# Altium footprint library 杂项库.PcbLib: 585 footprints (part 5 of 37)
Each footprint in its own frame and in the unit in brackets; x right, y up, seen from the top. Pads: shape width x height; smd on the part's side, far side on the other; paste and mask are expansions set on the pad; w line width, h text height; cw(c..) or ccw(c..) is an arc to the next point about the centre after c.
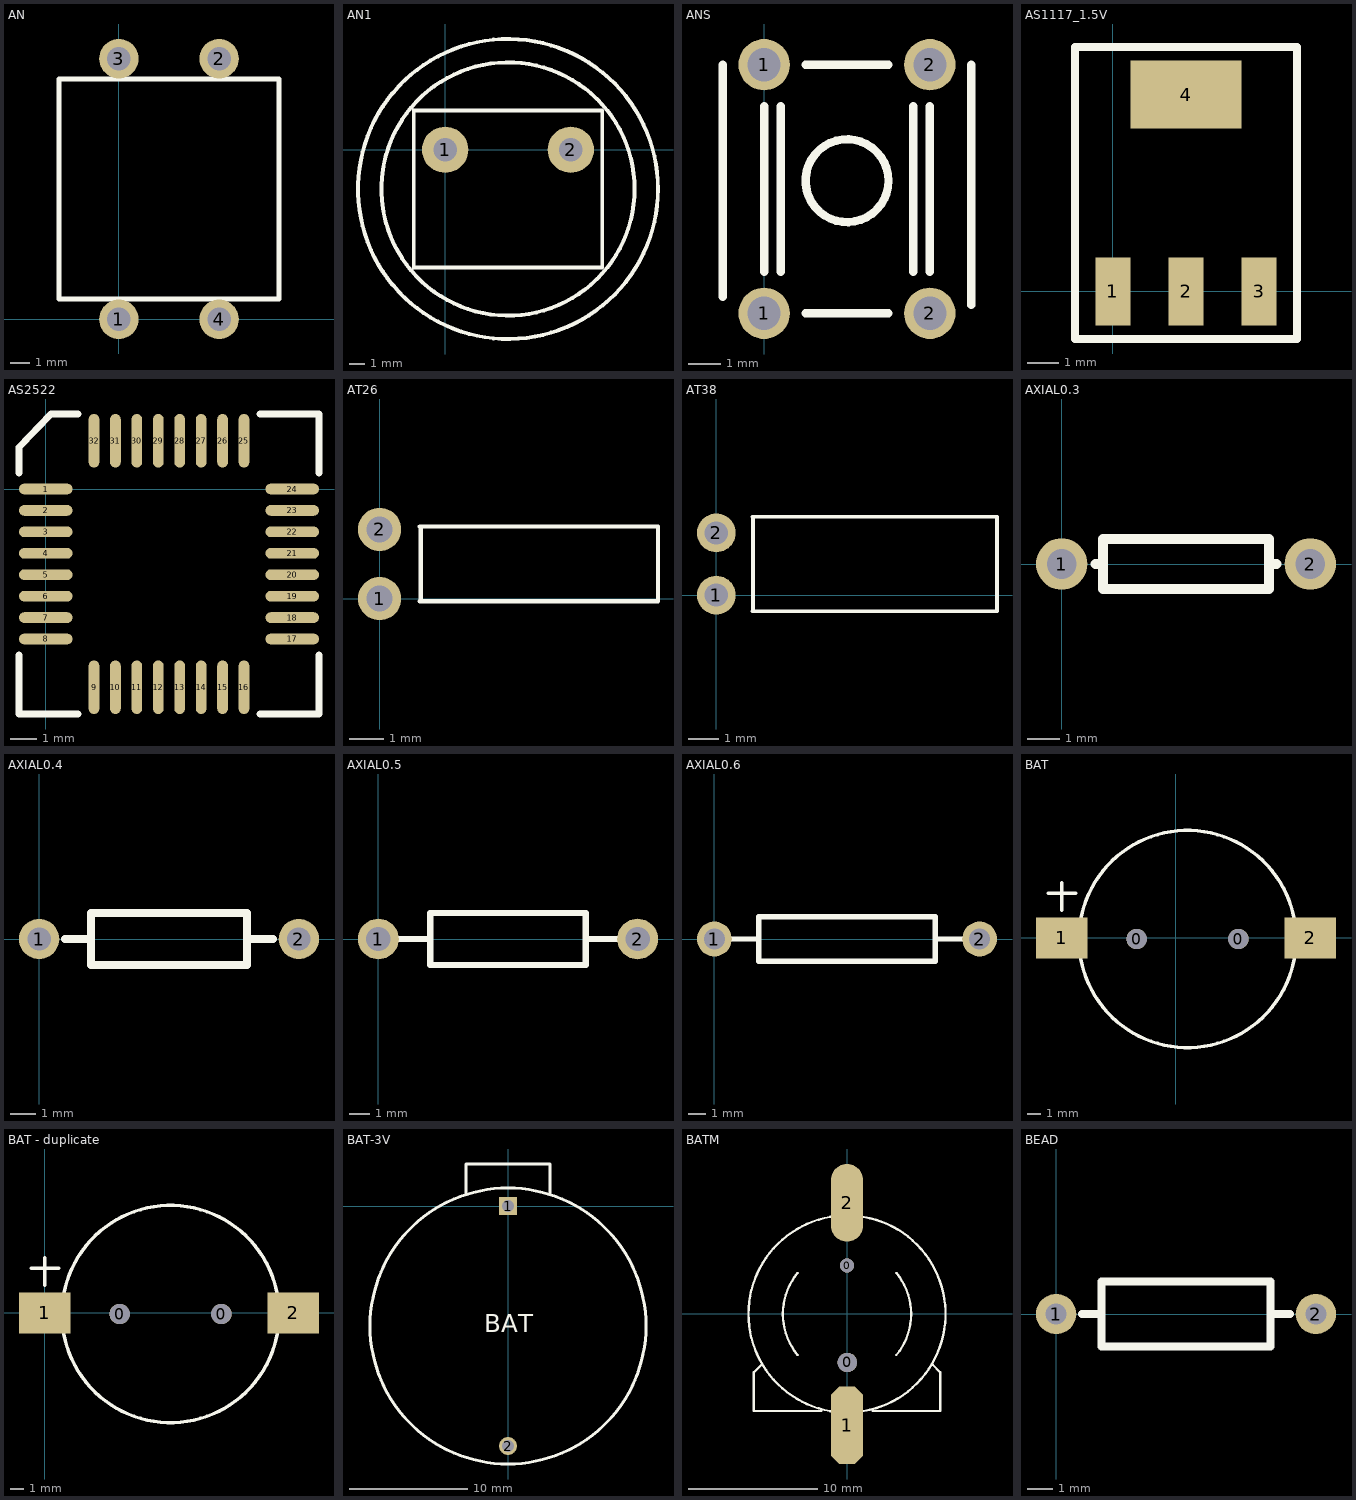
[diagram p4: the footprints below, top view; thin cyan lines are the x and y axes]

## AN [mm]
pads (4):
  round 2 hole 1.2: 1(0,0) 2(5.08,13.208) 3(0,13.208) 4(5.08,0)
Top Overlay:
  lines w0.254: -3.048,1.016 -3.048,12.192 8.128,12.192 8.128,1.016 -3.048,1.016

## AN1 [mm]
pads (2):
  round 3 hole 1.5: 1(0,0) 2(8.128,0)
Top Overlay:
  circle w0.254: c4.064,-2.54 r9.705
  circle w0.254: c4.064,-2.54 r8.191
  lines w0.254: -2.032,-7.62 10.16,-7.62 10.16,2.54 -2.032,2.54 -2.032,-7.62

## ANS [mil]
pads (4):
  round 62 hole 40: 1(0,100) 1(0,400) 2(200,100) 2(200,400)
Top Overlay:
  circle w10: c100,260 r50
  lines w10: -50,120 -50,400 ; 0,150 0,350 ; 20,150 20,350 ; 50,100 150,100 ; 50,400 150,400 ; 180,150 180,350 ; 200,150 200,350 ; 250,110 250,400

## AS1117_1.5V [mm]
pads (4):
  rect 1.1x2.15 smd: 1(0,0) 2(2.3,0) 3(4.6,0)
  rect 3.5x2.15 smd: 4(2.3,6.2)
Top Overlay:
  lines w0.25: -1.2,-1.5 -1.2,7.7 5.8,7.7 5.8,-1.5 -1.2,-1.5

## AS2522 [mm]
pads (32):
  oval 2x0.4 all layers, no hole: 1(0,0) 2(0,-0.8) 3(0,-1.6) 4(0,-2.4) 5(0,-3.2) 6(0,-4) 7(0,-4.8) 8(0,-5.6) 17(9.2,-5.6) 18(9.2,-4.8) 19(9.2,-4) 20(9.2,-3.2) 21(9.2,-2.4) 22(9.2,-1.6) 23(9.2,-0.8) 24(9.2,0)
  oval 0.4x2 all layers, no hole: 9(1.8,-7.4) 10(2.6,-7.4) 11(3.4,-7.4) 12(4.2,-7.4) 13(5,-7.4) 14(5.8,-7.4) 15(6.6,-7.4) 16(7.4,-7.4) 25(7.4,1.8) 26(6.6,1.8) 27(5.8,1.8) 28(5,1.8) 29(4.2,1.8) 30(3.4,1.8) 31(2.6,1.8) 32(1.8,1.8)
Top Overlay:
  lines w0.254: -1,-6.2 -1,-8.4 1.2,-8.4 ; -1,0.6 -1,1.556 0.19,2.8 1.2,2.8 ; 8,-8.4 10.2,-8.4 10.2,-6.2 ; 8,2.8 10.2,2.8 10.2,0.6

## AT26 [mil]
pads (2):
  round 50 hole 30: 1(0,0) 2(0,80)
Top Overlay:
  rectangle: 44.72,-3.26 50,83.35
  lines w5: 46.49,-3.26 322.08,-3.26 322.08,83.35 46.49,83.35

## AT38 [mil]
pads (2):
  round 50 hole 30: 1(0,0) 2(0,80.31)
Top Overlay:
  rectangle: 44.72,-20.87 50,101.18
  lines w5: 46.49,-20.87 362.2,-20.87 362.2,101.18 46.49,101.18

## AXIAL0.3 [mil]
pads (2):
  round 62 hole 36: 1(0,0) 2(300,0)
Top Overlay:
  lines w12: 41,0 50,0 ; 259,0 250,0 ; 250,0 250,-30 50,-30 50,30 250,30 250,0

## AXIAL0.4 [mil]
pads (2):
  round 62 hole 36: 1(0,0) 2(400,0)
Top Overlay:
  lines w12: 40,0 80,0 ; 320,0 360,0 ; 80,-40 320,-40 320,40 80,40 80,-40

## AXIAL0.5 [mm]
pads (2):
  round 2 hole 1.2: 1(0,0) 2(12.7,0)
Top Overlay:
  lines w0.305: 1.016,0 2.54,0 ; 10.16,0 11.684,0 ; 2.54,-1.27 2.54,1.27 10.16,1.27 10.16,-1.27 2.54,-1.27

## AXIAL0.6 [mm]
pads (2):
  round 2 hole 1.2: 1(0,0) 2(15.24,0)
Top Overlay:
  lines w0.305: 1.016,0 2.54,0 ; 12.7,0 14.224,0 ; 2.54,-1.27 2.54,1.27 12.7,1.27 12.7,-1.27 2.54,-1.27

## BAT [mil]
pads (4):
  round 59.05 hole 59.05: 0(-113.28,-3) 0(182,-3)
  rect 150x120 smd: 1(-330,0) 2(390,0)
Top Overlay:
  circle w10: c34.36,-3 r314.96
  lines w10: -370,130 -290,130 ; -330,80 -330,160

## BAT - duplicate [mil]
pads (4):
  round 59.05 hole 59.05: 0(216.72,-3) 0(512,-3)
  rect 150x120 smd: 1(0,0) 2(720,0)
Top Overlay:
  circle w10: c364.36,-3 r314.96
  lines w10: -40,130 40,130 ; 0,80 0,160

## BAT-3V [mil]
pads (2):
  rect 60x60 hole 40: 1(0,0)
  round 60 hole 40: 2(0,-800)
Top Overlay:
  circle w10: c0,-400 r460
  lines w10: -140,40 -140,140 140,140 140,40
  text "BAT" at -80,-420 h60

## BATM [mm]
pads (4):
  round 1.1 hole 1.1 unplated: 0(0,3.748)
  round 1.5 hole 1.5 unplated: 0(0.025,-3.752)
  oct 2.5x6 smd: 1(0,-8.602)
  oval 2.5x6 smd: 2(0,8.598)
Top Overlay:
  lines w0.178: -6.6,-3.902 -7.2,-4.502 -7.2,-7.502 -2,-7.502 ; -3.815,-3.171 cw(c0,-0.002) -3.812,3.171 ; -0.833,-7.576 cw(c0,-0.002) -7.62,-0.002 cw(c0,-0.002) -0.833,7.573 ; 0.833,-7.576 ccw(c0,-0.002) 0.833,7.573 ; 2,-7.502 7.2,-7.502 7.2,-4.502 6.625,-3.927 ; 3.81,-3.177 ccw(c0,-0.002) 3.812,3.171

## BEAD [mil]
pads (2):
  round 62 hole 32: 1(0,0) 2(400,0)
Top Overlay:
  lines w12: 40,0 70,0 ; 330,0 360,0 ; 70,-50 70,50 330,50 330,-50 70,-50